# Altium footprint library A5839.PcbLib: 1 footprints
Each footprint in its own frame and in the unit in brackets; x right, y up, seen from the top. Pads: shape width x height; smd on the part's side, far side on the other; paste and mask are expansions set on the pad; w line width, h text height; cw(c..) or ccw(c..) is an arc to the next point about the centre after c.
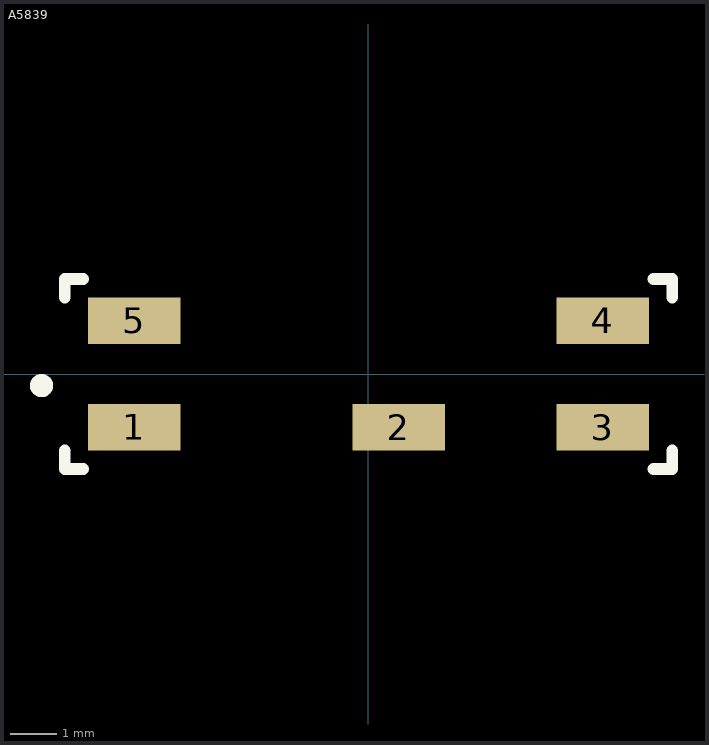
[diagram p0: the footprint, top view; thin cyan lines are the x and y axes]

## A5839 [mm]
pads (5):
  rect 2x1 smd: 1(-5.05,-1.15) 2(0.65,-1.15) 3(5.05,-1.15) 4(5.05,1.15) 5(-5.05,1.15)
Top Overlay:
  circle w0.25: c-7.05,-0.25 r0.125
  lines w0.254: -6.55,-1.65 -6.55,-2.05 -6.15,-2.05 ; -6.55,1.65 -6.55,2.05 -6.15,2.05 ; 6.15,-2.05 6.55,-2.05 6.55,-1.65 ; 6.15,2.05 6.55,2.05 6.55,1.65